# Altium schematic symbol library C354897.SchLib: 1 symbol
Pins are listed as number, name and electrical type; pins without a type are passive.

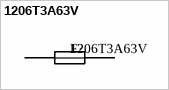
[diagram p0: symbol 1206T3A63V]

## 1206T3A63V
designator F?
3A Fuse Surface Mount 1206
footprint F1206 (3A Fuse Surface Mount 1206)
pins: 1, 2